# Altium schematic symbol library RC0402FR-07240KL.SchLib: 1 symbol
Pins are listed as number, name and electrical type; pins without a type are passive.

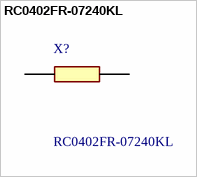
[diagram p0: symbol RC0402FR-07240KL]

## RC0402FR-07240KL
designator X?
YAGEO (PHYCOMP) - RC0402FR-07240KL - RES, THICK FILM, 240K, 1%, 0.063W, 0402; Manufacturer_Name: Yageo Group; Geometry.Height: 0.4mm; Mouser Part Number: 603-RC0402FR-07240KL; Mouser Price/Stock: https://www.mouser.co.uk/ProductDetail/YAGEO/RC0402FR-07240KL?qs=UOUeRUa%252B8Wk%2FVV3xbpEz8g%3D%3D; Manufacturer_Part_Number: RC0402FR-07240KL; Datasheet Link: http://www.yageo.com/documents/recent/PYu-RC0402_51_RoHS_L_6_r.pdf
footprint RESC1005X40N
pins: 1, 2